# Altium footprint library DRA.PcbLib: 72 footprints (part 2 of 6)
Each footprint in its own frame and in the unit in brackets; x right, y up, seen from the top. Pads: shape width x height; smd on the part's side, far side on the other; paste and mask are expansions set on the pad; w line width, h text height; cw(c..) or ccw(c..) is an arc to the next point about the centre after c.
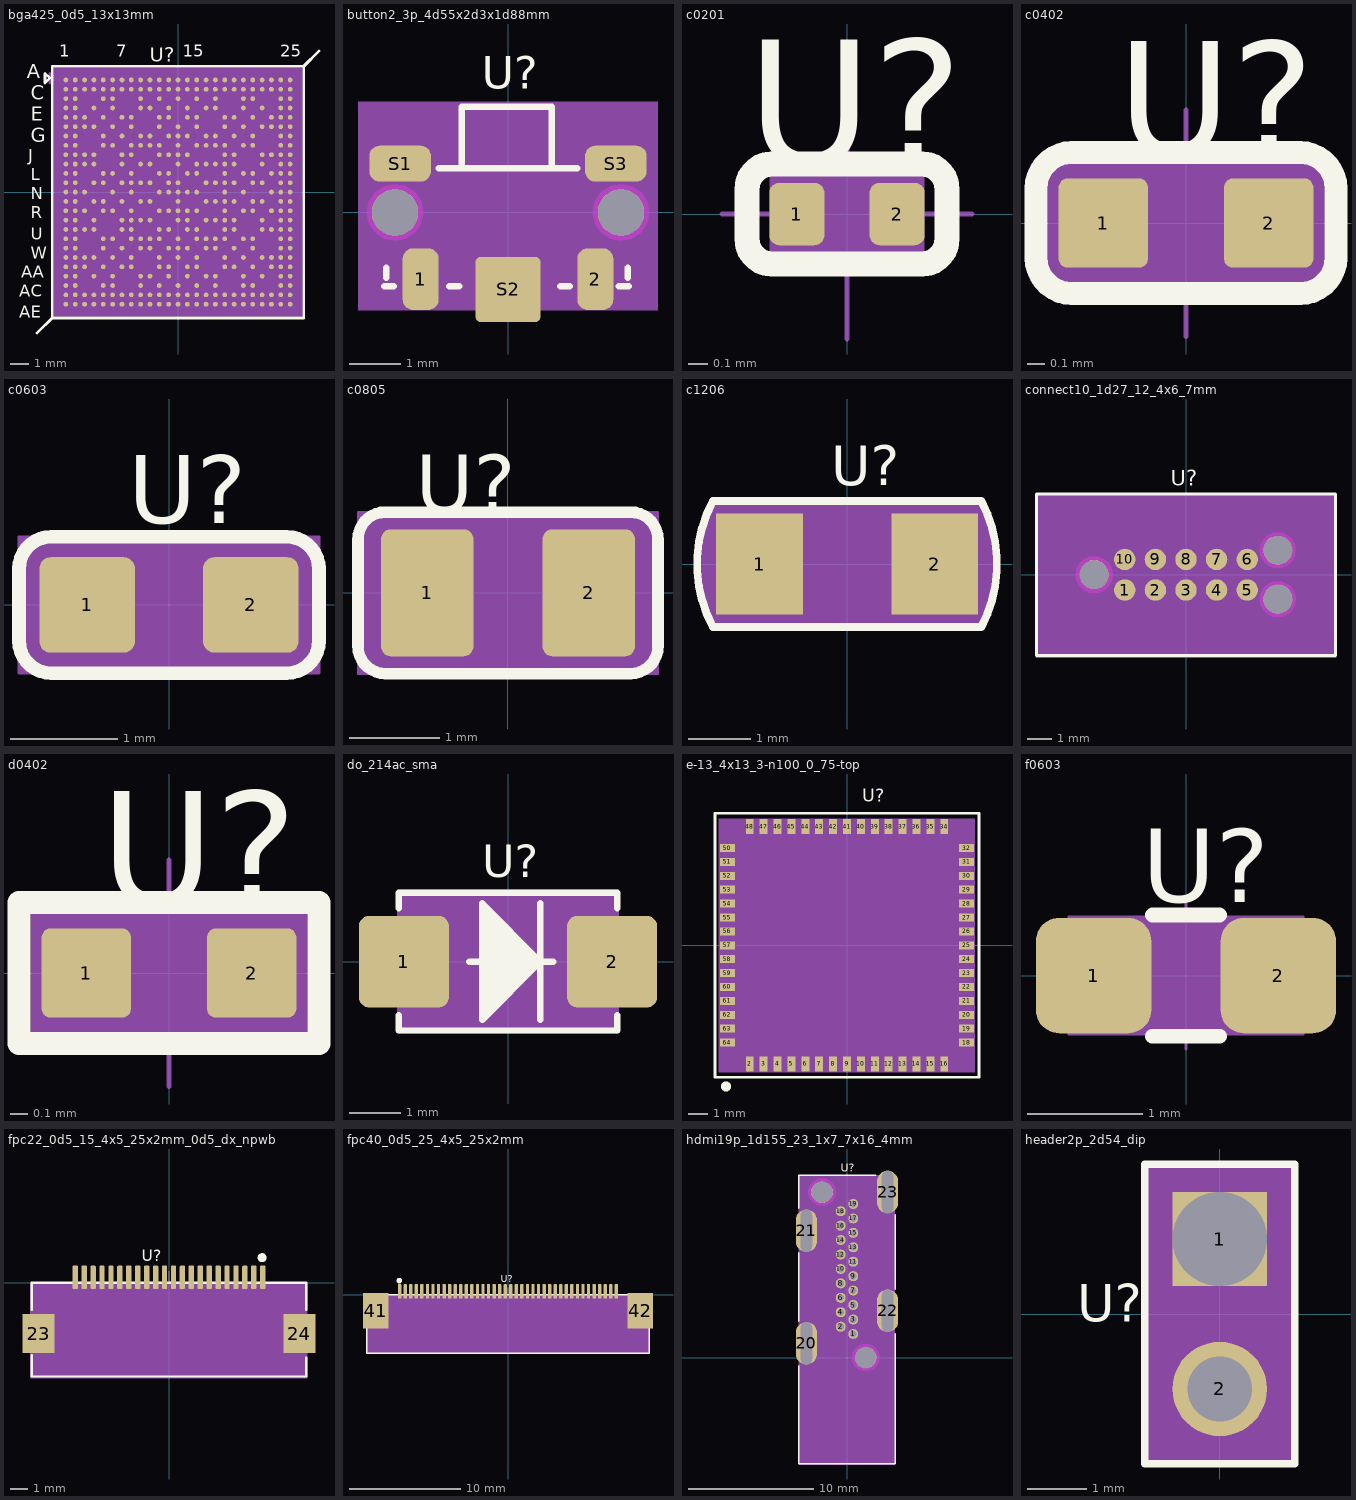
[diagram p1: the footprints below, top view; thin cyan lines are the x and y axes]

## bga425_0d5_13x13mm [mil]
pads (425):
  round 10 smd: A1(-236.22,236.22) A2(-216.54,236.22) A3(-196.85,236.22) A4(-177.16,236.22) A5(-157.48,236.22) A6(-137.8,236.22) A7(-118.11,236.22) A8(-98.42,236.22) A9(-78.74,236.22) A10(-59.06,236.22) A11(-39.37,236.22) A12(-19.68,236.22) A13(0,236.22) A14(19.68,236.22) A15(39.37,236.22) A16(59.06,236.22) A17(78.74,236.22) A18(98.42,236.22) A19(118.11,236.22) A20(137.8,236.22) A21(157.48,236.22) A22(177.16,236.22) A23(196.85,236.22) A24(216.54,236.22) A25(236.22,236.22) AA1(-236.22,-157.48) AA2(-216.54,-157.48) AA3(-196.85,-157.48) AA5(-157.48,-157.48) AA7(-118.11,-157.48) AA8(-98.42,-157.48) AA11(-39.37,-157.48) AA12(-19.68,-157.48) AA14(19.68,-157.48) AA15(39.37,-157.48) AA18(98.42,-157.48) AA19(118.11,-157.48) AA21(157.48,-157.48) AA23(196.85,-157.48) AA24(216.54,-157.48) AA25(236.22,-157.48) AB1(-236.22,-177.16) AB2(-216.54,-177.16) AB4(-177.16,-177.16) AB6(-137.8,-177.16) AB9(-78.74,-177.16) AB10(-59.06,-177.16) AB12(-19.68,-177.16) AB14(19.68,-177.16) AB16(59.06,-177.16) AB17(78.74,-177.16) AB20(137.8,-177.16) AB22(177.16,-177.16) AB24(216.54,-177.16) AB25(236.22,-177.16) AC1(-236.22,-196.85) AC2(-216.54,-196.85) AC5(-157.48,-196.85) AC6(-137.8,-196.85) AC9(-78.74,-196.85) AC11(-39.37,-196.85) AC13(0,-196.85) AC15(39.37,-196.85) AC17(78.74,-196.85) AC20(137.8,-196.85) AC21(157.48,-196.85) AC24(216.54,-196.85) AC25(236.22,-196.85) AD1(-236.22,-216.54) AD2(-216.54,-216.54) AD3(-196.85,-216.54) AD4(-177.16,-216.54) AD5(-157.48,-216.54) AD6(-137.8,-216.54) AD7(-118.11,-216.54) AD8(-98.42,-216.54) AD9(-78.74,-216.54) AD10(-59.06,-216.54) AD11(-39.37,-216.54) AD12(-19.68,-216.54) AD13(0,-216.54) AD14(19.68,-216.54) AD15(39.37,-216.54) AD16(59.06,-216.54) AD17(78.74,-216.54) AD18(98.42,-216.54) AD19(118.11,-216.54) AD20(137.8,-216.54) AD21(157.48,-216.54) AD22(177.16,-216.54) AD23(196.85,-216.54) AD24(216.54,-216.54) AD25(236.22,-216.54) AE1(-236.22,-236.22) AE2(-216.54,-236.22) AE3(-196.85,-236.22) AE4(-177.16,-236.22) AE5(-157.48,-236.22) AE6(-137.8,-236.22) AE7(-118.11,-236.22) AE8(-98.42,-236.22) AE9(-78.74,-236.22) AE10(-59.06,-236.22) AE11(-39.37,-236.22) AE12(-19.68,-236.22) AE13(0,-236.22) AE14(19.68,-236.22) AE15(39.37,-236.22) AE16(59.06,-236.22) AE17(78.74,-236.22) AE18(98.42,-236.22) AE19(118.11,-236.22) AE20(137.8,-236.22) AE21(157.48,-236.22) AE22(177.16,-236.22) AE23(196.85,-236.22) AE24(216.54,-236.22) AE25(236.22,-236.22) B1(-236.22,216.54) B2(-216.54,216.54) B3(-196.85,216.54) B4(-177.16,216.54) B5(-157.48,216.54) B6(-137.8,216.54) B7(-118.11,216.54) B8(-98.42,216.54) B9(-78.74,216.54) B10(-59.06,216.54) B11(-39.37,216.54) B12(-19.68,216.54) B13(0,216.54) B14(19.68,216.54) B15(39.37,216.54) B16(59.06,216.54) B17(78.74,216.54) B18(98.42,216.54) B19(118.11,216.54) B20(137.8,216.54) B21(157.48,216.54) B22(177.16,216.54) B23(196.85,216.54) B24(216.54,216.54) B25(236.22,216.54) C1(-236.22,196.85) C2(-216.54,196.85) C5(-157.48,196.85) C6(-137.8,196.85) C9(-78.74,196.85) C11(-39.37,196.85) C13(0,196.85) C15(39.37,196.85) C17(78.74,196.85) C20(137.8,196.85) C21(157.48,196.85) C24(216.54,196.85) C25(236.22,196.85) D1(-236.22,177.16) D2(-216.54,177.16) D4(-177.16,177.16) D6(-137.8,177.16) D9(-78.74,177.16) D10(-59.06,177.16) D12(-19.68,177.16) D14(19.68,177.16) D16(59.06,177.16) D17(78.74,177.16) D20(137.8,177.16) D22(177.16,177.16) D24(216.54,177.16) D25(236.22,177.16) E1(-236.22,157.48) E2(-216.54,157.48) E3(-196.85,157.48) E5(-157.48,157.48) E7(-118.11,157.48) E8(-98.42,157.48) E11(-39.37,157.48) E12(-19.68,157.48) E14(19.68,157.48) E15(39.37,157.48) E18(98.42,157.48) E19(118.11,157.48) E21(157.48,157.48) E23(196.85,157.48) E24(216.54,157.48) E25(236.22,157.48) F1(-236.22,137.8) F2(-216.54,137.8) F3(-196.85,137.8) F4(-177.16,137.8) F6(-137.8,137.8) F8(-98.42,137.8) F11(-39.37,137.8) F13(0,137.8) F15(39.37,137.8) F18(98.42,137.8) F20(137.8,137.8) F22(177.16,137.8) F23(196.85,137.8) F24(216.54,137.8) F25(236.22,137.8) G1(-236.22,118.11) G2(-216.54,118.11) G5(-157.48,118.11) G7(-118.11,118.11) G9(-78.74,118.11) G10(-59.06,118.11) G12(-19.68,118.11) G13(0,118.11) G14(19.68,118.11) G16(59.06,118.11) G17(78.74,118.11) G19(118.11,118.11) G21(157.48,118.11) G24(216.54,118.11) G25(236.22,118.11) H1(-236.22,98.42) H2(-216.54,98.42) H5(-157.48,98.42) H6(-137.8,98.42) H8(-98.42,98.42) H9(-78.74,98.42) H10(-59.06,98.42) H11(-39.37,98.42) H13(0,98.42) H15(39.37,98.42) H16(59.06,98.42) H17(78.74,98.42) H18(98.42,98.42) H20(137.8,98.42) H21(157.48,98.42) H24(216.54,98.42) H25(236.22,98.42) J1(-236.22,78.74) J2(-216.54,78.74) J3(-196.85,78.74) J4(-177.16,78.74) J7(-118.11,78.74) J8(-98.42,78.74) J11(-39.37,78.74) J12(-19.68,78.74) J13(0,78.74) J14(19.68,78.74) J18(98.42,78.74) J19(118.11,78.74) J22(177.16,78.74) J23(196.85,78.74) J24(216.54,78.74) J25(236.22,78.74) K1(-236.22,59.06) K2(-216.54,59.06) K3(-196.85,59.06) K4(-177.16,59.06) K7(-118.11,59.06) K9(-78.74,59.06) K10(-59.06,59.06) K13(0,59.06) K15(39.37,59.06) K16(59.06,59.06) K17(78.74,59.06) K18(98.42,59.06) K19(118.11,59.06) K22(177.16,59.06) K24(216.54,59.06) K25(236.22,59.06) L1(-236.22,39.37) L2(-216.54,39.37) L5(-157.48,39.37) L6(-137.8,39.37) L8(-98.42,39.37) L11(-39.37,39.37) L12(-19.68,39.37) L14(19.68,39.37) L15(39.37,39.37) L18(98.42,39.37) L20(137.8,39.37) L21(157.48,39.37) L23(196.85,39.37) L24(216.54,39.37) L25(236.22,39.37) M1(-236.22,19.68) M2(-216.54,19.68) M4(-177.16,19.68) M5(-157.48,19.68) M7(-118.11,19.68) M8(-98.42,19.68) M9(-78.74,19.68) M10(-59.06,19.68) M12(-19.68,19.68) M13(0,19.68) M16(59.06,19.68) M17(78.74,19.68) M18(98.42,19.68) M19(118.11,19.68) M21(157.48,19.68) M22(177.16,19.68) M24(216.54,19.68) M25(236.22,19.68) N1(-236.22,0) N2(-216.54,0) N3(-196.85,0) N6(-137.8,0) N8(-98.42,0) N11(-39.37,0) N12(-19.68,0) N13(0,0) N14(19.68,0) N15(39.37,0) N18(98.42,0) N20(137.8,0) N23(196.85,0) N24(216.54,0) N25(236.22,0) P1(-236.22,-19.68) P2(-216.54,-19.68) P4(-177.16,-19.68) P5(-157.48,-19.68) P7(-118.11,-19.68) P9(-78.74,-19.68) P10(-59.06,-19.68) P13(0,-19.68) P16(59.06,-19.68) P17(78.74,-19.68) P18(98.42,-19.68) P19(118.11,-19.68) P21(157.48,-19.68) P22(177.16,-19.68) P24(216.54,-19.68) P25(236.22,-19.68) R1(-236.22,-39.37) R2(-216.54,-39.37) R3(-196.85,-39.37) R5(-157.48,-39.37) R6(-137.8,-39.37) R8(-98.42,-39.37) R11(-39.37,-39.37) R12(-19.68,-39.37) R13(0,-39.37) R14(19.68,-39.37) R15(39.37,-39.37) R18(98.42,-39.37) R20(137.8,-39.37) R21(157.48,-39.37) R23(196.85,-39.37) R24(216.54,-39.37) R25(236.22,-39.37) T1(-236.22,-59.06) T2(-216.54,-59.06) T4(-177.16,-59.06) T7(-118.11,-59.06) T8(-98.42,-59.06) T9(-78.74,-59.06) T10(-59.06,-59.06) T13(0,-59.06) T14(19.68,-59.06) T16(59.06,-59.06) T17(78.74,-59.06) T18(98.42,-59.06) T19(118.11,-59.06) T22(177.16,-59.06) T24(216.54,-59.06) T25(236.22,-59.06) U1(-236.22,-78.74) U2(-216.54,-78.74) U3(-196.85,-78.74) U4(-177.16,-78.74) U7(-118.11,-78.74) U8(-98.42,-78.74) U11(-39.37,-78.74) U12(-19.68,-78.74) U14(19.68,-78.74) U15(39.37,-78.74) U18(98.42,-78.74) U19(118.11,-78.74) U22(177.16,-78.74) U23(196.85,-78.74) U24(216.54,-78.74) U25(236.22,-78.74) V1(-236.22,-98.42) V2(-216.54,-98.42) V5(-157.48,-98.42) V6(-137.8,-98.42) V8(-98.42,-98.42) V9(-78.74,-98.42) V10(-59.06,-98.42) V11(-39.37,-98.42) V13(0,-98.42) V15(39.37,-98.42) V16(59.06,-98.42) V17(78.74,-98.42) V18(98.42,-98.42) V20(137.8,-98.42) V21(157.48,-98.42) V24(216.54,-98.42) V25(236.22,-98.42) W1(-236.22,-118.11) W2(-216.54,-118.11) W5(-157.48,-118.11) W7(-118.11,-118.11) W9(-78.74,-118.11) W10(-59.06,-118.11) W12(-19.68,-118.11) W13(0,-118.11) W14(19.68,-118.11) W16(59.06,-118.11) W17(78.74,-118.11) W19(118.11,-118.11) W21(157.48,-118.11) W24(216.54,-118.11) W25(236.22,-118.11) Y1(-236.22,-137.8) Y2(-216.54,-137.8) Y3(-196.85,-137.8) Y4(-177.16,-137.8) Y6(-137.8,-137.8) Y8(-98.42,-137.8) Y11(-39.37,-137.8) Y13(0,-137.8) Y15(39.37,-137.8) Y18(98.42,-137.8) Y20(137.8,-137.8) Y22(177.16,-137.8) Y23(196.85,-137.8) Y24(216.54,-137.8) Y25(236.22,-137.8)
Top Overlay:
  lines w6: -265,-265 -297,-297 -265,-265 ; -265,-265 265,-265 265,265 ; -265,-265 -265,265 265,265 ; 265,265 297,297 265,265 ; -280,230 -270,240 -280,250 -280,230
  text "R" at -310,-55 h25
  text "C" at -310,195 h30
  text "U" at -310,-100 h25
  text "E" at -310,150 h30
  text "15" at 10,285 h25
  text "AC" at -335,-220 h25
  text "U?" at -60,275 h30
  text "7" at -130,285 h25
  text "N" at -310,-15 h25
  text "A" at -290,240 h30
  text "1" at -250,285 h25
  text "L" at -310,25 h25
  text "AE" at -335,-265 h25
  text "AA" at -330,-180 h25
  text "25" at 215,285 h25
  text "G" at -310,105 h30
  text "J" at -315,65 h25
  text "W" at -310,-140 h25
~BFM:
  dashed: -262,-262 -262,262 262,262 262,-262
PLACE_BOUND_TOP:
  region: -255,-255 -255,255 255,255 255,-255
DRAWING_ORIGIN:
  lines w1: -25,0 25,0 ; 0,-25 0,25
PIN_NUMBER:
  text "AE12" at -35.68,-236.22 h10
  text "C24" at 204.54,196.85 h10
  text "AE2" at -228.54,-236.22 h10
  text "AA14" at 3.68,-157.48 h10
  text "E2" at -224.54,157.48 h10
  text "R8" at -106.42,-39.37 h10
  text "T14" at 7.68,-59.06 h10
  text "M2" at -224.54,19.68 h10
  text "J12" at -31.68,78.74 h10
  text "K4" at -185.16,59.06 h10
  text "AC20" at 121.8,-196.85 h10
  text "L2" at -224.54,39.37 h10
  text "G7" at -126.11,118.11 h10
  text "AB2" at -228.54,-177.16 h10
  text "W2" at -224.54,-118.11 h10
  text "AA18" at 82.42,-157.48 h10
  text "L12" at -31.68,39.37 h10
  text "A17" at 66.74,236.22 h10
  text "Y3" at -204.85,-137.8 h10
  text "H6" at -145.8,98.42 h10
  text "A8" at -106.42,236.22 h10
  text "D6" at -145.8,177.16 h10
  text "F15" at 27.37,137.8 h10
  text "H24" at 204.54,98.42 h10
  text "T10" at -71.06,-59.06 h10
  text "T18" at 86.42,-59.06 h10
  text "T24" at 204.54,-59.06 h10
  text "M22" at 165.16,19.68 h10
  text "AB24" at 200.54,-177.16 h10
  text "AE4" at -189.16,-236.22 h10
  text "G14" at 7.68,118.11 h10
  text "M16" at 47.06,19.68 h10
  text "B22" at 165.16,216.54 h10
  text "P24" at 204.54,-19.68 h10
  text "AD24" at 200.54,-216.54 h10
  text "G1" at -244.22,118.11 h10
  text "R12" at -31.68,-39.37 h10
  text "E25" at 224.22,157.48 h10
  text "U25" at 224.22,-78.74 h10
  text "C6" at -145.8,196.85 h10
  text "B12" at -31.68,216.54 h10
  text "B19" at 106.11,216.54 h10
  text "L21" at 145.48,39.37 h10
  text "AE18" at 82.42,-236.22 h10
  text "B18" at 86.42,216.54 h10
  text "B14" at 7.68,216.54 h10
  text "H9" at -86.74,98.42 h10
  text "AB1" at -248.22,-177.16 h10
  text "AC1" at -248.22,-196.85 h10
  text "U15" at 27.37,-78.74 h10
  text "G13" at -12,118.11 h10
  text "A22" at 165.16,236.22 h10
  text "B24" at 204.54,216.54 h10
  text "C13" at -12,196.85 h10
  text "Y18" at 86.42,-137.8 h10
  text "R15" at 27.37,-39.37 h10
  text "N18" at 86.42,0 h10
  text "P18" at 86.42,-19.68 h10
  text "D4" at -185.16,177.16 h10
  text "AE23" at 180.85,-236.22 h10
  text "D1" at -244.22,177.16 h10
  text "L1" at -244.22,39.37 h10
  text "M4" at -185.16,19.68 h10
  text "K10" at -71.06,59.06 h10
  text "H21" at 145.48,98.42 h10
  text "R11" at -51.37,-39.37 h10
  text "G25" at 224.22,118.11 h10
  text "AB22" at 161.16,-177.16 h10
  text "J13" at -12,78.74 h10
  text "F3" at -204.85,137.8 h10
  text "A1" at -244.22,236.22 h10
  text "T13" at -12,-59.06 h10
  text "R13" at -12,-39.37 h10
  text "N11" at -51.37,0 h10
  text "AD14" at 3.68,-216.54 h10
  text "E24" at 204.54,157.48 h10
  text "U18" at 86.42,-78.74 h10
  text "N1" at -244.22,0 h10
  text "AB20" at 121.8,-177.16 h10
  text "B17" at 66.74,216.54 h10
  text "AE16" at 43.06,-236.22 h10
  text "B16" at 47.06,216.54 h10
  text "U2" at -224.54,-78.74 h10
  text "W14" at 7.68,-118.11 h10
  text "AD5" at -169.48,-216.54 h10
  text "T1" at -244.22,-59.06 h10
  text "AA21" at 141.48,-157.48 h10
  text "L23" at 184.85,39.37 h10
  text "AD22" at 161.16,-216.54 h10
  text "P19" at 106.11,-19.68 h10
  text "P1" at -244.22,-19.68 h10
  text "F23" at 184.85,137.8 h10
  text "A25" at 224.22,236.22 h10
  text "F13" at -12,137.8 h10
  text "M7" at -126.11,19.68 h10
  text "C21" at 145.48,196.85 h10
  text "A6" at -145.8,236.22 h10
  text "AA19" at 102.11,-157.48 h10
  text "E18" at 86.42,157.48 h10
  text "N25" at 224.22,0 h10
  text "Y8" at -106.42,-137.8 h10
  text "R1" at -244.22,-39.37 h10
  text "T19" at 106.11,-59.06 h10
  text "B21" at 145.48,216.54 h10
  text "M10" at -71.06,19.68 h10
  text "P9" at -86.74,-19.68 h10
  text "AE7" at -130.11,-236.22 h10
  text "U22" at 165.16,-78.74 h10
  text "R20" at 125.8,-39.37 h10
  text "E19" at 106.11,157.48 h10
  text "R2" at -224.54,-39.37 h10
  text "AE8" at -110.42,-236.22 h10
  text "AE14" at 3.68,-236.22 h10
  text "Y22" at 165.16,-137.8 h10
  text "E5" at -165.48,157.48 h10
  text "AA7" at -130.11,-157.48 h10
  text "K25" at 224.22,59.06 h10
  text "L20" at 125.8,39.37 h10
  text "N12" at -31.68,0 h10
  text "AB9" at -90.74,-177.16 h10
  text "AA12" at -35.68,-157.48 h10
  text "H1" at -244.22,98.42 h10
  text "B4" at -185.16,216.54 h10
  text "Y11" at -51.37,-137.8 h10
  text "L11" at -51.37,39.37 h10
  text "P21" at 145.48,-19.68 h10
  text "L25" at 224.22,39.37 h10
  text "A19" at 106.11,236.22 h10
  text "A4" at -185.16,236.22 h10
  text "U24" at 204.54,-78.74 h10
  text "F4" at -185.16,137.8 h10
  text "E8" at -106.42,157.48 h10
  text "D25" at 224.22,177.16 h10
  text "J22" at 165.16,78.74 h10
  text "T7" at -126.11,-59.06 h10
  text "Y6" at -145.8,-137.8 h10
  text "A20" at 125.8,236.22 h10
  text "C25" at 224.22,196.85 h10
  text "P17" at 66.74,-19.68 h10
  text "AA5" at -169.48,-157.48 h10
  text "G2" at -224.54,118.11 h10
  text "M8" at -106.42,19.68 h10
  text "T16" at 47.06,-59.06 h10
  text "AB14" at 3.68,-177.16 h10
  text "T8" at -106.42,-59.06 h10
  text "AC2" at -228.54,-196.85 h10
  text "J3" at -204.85,78.74 h10
  text "H17" at 66.74,98.42 h10
  text "L8" at -106.42,39.37 h10
  text "AE10" at -75.06,-236.22 h10
  text "P25" at 224.22,-19.68 h10
  text "AA1" at -248.22,-157.48 h10
  text "AD10" at -75.06,-216.54 h10
  text "AC25" at 220.22,-196.85 h10
  text "D20" at 125.8,177.16 h10
  text "H25" at 224.22,98.42 h10
  text "AC11" at -55.37,-196.85 h10
  text "A18" at 86.42,236.22 h10
  text "B5" at -165.48,216.54 h10
  text "AA3" at -208.85,-157.48 h10
  text "AD12" at -35.68,-216.54 h10
  text "E23" at 184.85,157.48 h10
  text "D2" at -224.54,177.16 h10
  text "J25" at 224.22,78.74 h10
  text "Y13" at -12,-137.8 h10
  text "G5" at -165.48,118.11 h10
  text "T22" at 165.16,-59.06 h10
  text "E3" at -204.85,157.48 h10
  text "U23" at 184.85,-78.74 h10
  text "U14" at 7.68,-78.74 h10
  text "D10" at -71.06,177.16 h10
  text "AC24" at 200.54,-196.85 h10
  text "G24" at 204.54,118.11 h10
  text "K7" at -126.11,59.06 h10
  text "AD23" at 180.85,-216.54 h10
  text "C5" at -165.48,196.85 h10
  text "A12" at -31.68,236.22 h10
  text "H5" at -165.48,98.42 h10
  text "AB6" at -149.8,-177.16 h10
  text "N13" at -12,0 h10
  text "W25" at 224.22,-118.11 h10
  text "G12" at -31.68,118.11 h10
  text "H16" at 47.06,98.42 h10
  text "K2" at -224.54,59.06 h10
  text "AA25" at 220.22,-157.48 h10
  text "M9" at -86.74,19.68 h10
  text "AE20" at 121.8,-236.22 h10
  text "R25" at 224.22,-39.37 h10
  text "W24" at 204.54,-118.11 h10
  text "T17" at 66.74,-59.06 h10
  text "L6" at -145.8,39.37 h10
  text "AE5" at -169.48,-236.22 h10
  text "AB25" at 220.22,-177.16 h10
  text "H10" at -71.06,98.42 h10
  text "P10" at -71.06,-19.68 h10
  text "T2" at -224.54,-59.06 h10
  text "A11" at -51.37,236.22 h10
  text "P7" at -126.11,-19.68 h10
  text "AE15" at 23.37,-236.22 h10
  text "U19" at 106.11,-78.74 h10
  text "F18" at 86.42,137.8 h10
  text "D16" at 47.06,177.16 h10
  text "AE3" at -208.85,-236.22 h10
  text "J14" at 7.68,78.74 h10
  text "A2" at -224.54,236.22 h10
  text "F20" at 125.8,137.8 h10
  text "A3" at -204.85,236.22 h10
  text "AA11" at -55.37,-157.48 h10
  text "P13" at -12,-19.68 h10
  text "J23" at 184.85,78.74 h10
  text "A16" at 47.06,236.22 h10
  text "H8" at -106.42,98.42 h10
  text "Y25" at 224.22,-137.8 h10
  text "P2" at -224.54,-19.68 h10
  text "C15" at 27.37,196.85 h10
  text "A9" at -86.74,236.22 h10
  text "N3" at -204.85,0 h10
  text "AD13" at -16,-216.54 h10
  text "AD4" at -189.16,-216.54 h10
  text "B6" at -145.8,216.54 h10
  text "K9" at -86.74,59.06 h10
  text "R24" at 204.54,-39.37 h10
  text "P5" at -165.48,-19.68 h10
  text "AD7" at -130.11,-216.54 h10
  text "AE1" at -248.22,-236.22 h10
  text "B7" at -126.11,216.54 h10
  text "W13" at -12,-118.11 h10
  text "A15" at 27.37,236.22 h10
  text "E14" at 7.68,157.48 h10
  text "L18" at 86.42,39.37 h10
  text "AC15" at 23.37,-196.85 h10
  text "J1" at -244.22,78.74 h10
  text "W10" at -71.06,-118.11 h10
  text "W12" at -31.68,-118.11 h10
  text "T25" at 224.22,-59.06 h10
  text "V18" at 86.42,-98.42 h10
  text "AA23" at 180.85,-157.48 h10
  text "D17" at 66.74,177.16 h10
  text "D24" at 204.54,177.16 h10
  text "K24" at 204.54,59.06 h10
  text "U11" at -51.37,-78.74 h10
  text "T9" at -86.74,-59.06 h10
  text "U1" at -244.22,-78.74 h10
  text "AD25" at 220.22,-216.54 h10
  text "AD9" at -90.74,-216.54 h10
  text "AB4" at -189.16,-177.16 h10
  text "D14" at 7.68,177.16 h10
  text "AC6" at -149.8,-196.85 h10
  text "B2" at -224.54,216.54 h10
  text "Y2" at -224.54,-137.8 h10
  text "A14" at 7.68,236.22 h10
  text "E11" at -51.37,157.48 h10
  text "F11" at -51.37,137.8 h10
  text "F25" at 224.22,137.8 h10
  text "V20" at 125.8,-98.42 h10
  text "AD1" at -248.22,-216.54 h10
  text "U8" at -106.42,-78.74 h10
  text "AD21" at 141.48,-216.54 h10
  text "J7" at -126.11,78.74 h10
  text "A24" at 204.54,236.22 h10
  text "C20" at 125.8,196.85 h10
  text "L5" at -165.48,39.37 h10
  text "E15" at 27.37,157.48 h10
  text "W9" at -86.74,-118.11 h10
  text "V2" at -224.54,-98.42 h10
  text "C11" at -51.37,196.85 h10
  text "H11" at -51.37,98.42 h10
  text "J4" at -185.16,78.74 h10
  text "W7" at -126.11,-118.11 h10
  text "H15" at 27.37,98.42 h10
  text "K15" at 27.37,59.06 h10
  text "P16" at 47.06,-19.68 h10
  text "H2" at -224.54,98.42 h10
  text "R23" at 184.85,-39.37 h10
  text "AC13" at -16,-196.85 h10
  text "A21" at 145.48,236.22 h10
  text "V16" at 47.06,-98.42 h10
  text "G19" at 106.11,118.11 h10
  text "C1" at -244.22,196.85 h10
  text "T4" at -185.16,-59.06 h10
  text "Y23" at 184.85,-137.8 h10
  text "U7" at -126.11,-78.74 h10
  text "N15" at 27.37,0 h10
  text "AE21" at 141.48,-236.22 h10
  text "V8" at -106.42,-98.42 h10
  text "B3" at -204.85,216.54 h10
  text "L15" at 27.37,39.37 h10
  text "AE19" at 102.11,-236.22 h10
  text "V5" at -165.48,-98.42 h10
  text "AC17" at 62.74,-196.85 h10
  text "Y1" at -244.22,-137.8 h10
  text "V15" at 27.37,-98.42 h10
  text "AE22" at 161.16,-236.22 h10
  text "F24" at 204.54,137.8 h10
  text "AB10" at -75.06,-177.16 h10
  text "M25" at 224.22,19.68 h10
  text "K16" at 47.06,59.06 h10
  text "B10" at -71.06,216.54 h10
  text "F2" at -224.54,137.8 h10
  text "N6" at -145.8,0 h10
  text "N14" at 7.68,0 h10
  text "A23" at 184.85,236.22 h10
  text "AE11" at -55.37,-236.22 h10
  text "V1" at -244.22,-98.42 h10
  text "B11" at -51.37,216.54 h10
  text "L14" at 7.68,39.37 h10
  text "AA24" at 200.54,-157.48 h10
  text "V25" at 224.22,-98.42 h10
  text "U12" at -31.68,-78.74 h10
  text "R5" at -165.48,-39.37 h10
  text "H18" at 86.42,98.42 h10
  text "G10" at -71.06,118.11 h10
  text "J2" at -224.54,78.74 h10
  text "J18" at 86.42,78.74 h10
  text "V13" at -12,-98.42 h10
  text "B1" at -244.22,216.54 h10
  text "M12" at -31.68,19.68 h10
  text "D12" at -31.68,177.16 h10
  text "R18" at 86.42,-39.37 h10
  text "E7" at -126.11,157.48 h10
  text "V24" at 204.54,-98.42 h10
  text "Y4" at -185.16,-137.8 h10
  text "AE9" at -90.74,-236.22 h10
  text "W21" at 145.48,-118.11 h10
  text "Y24" at 204.54,-137.8 h10
  text "Y20" at 125.8,-137.8 h10
  text "K19" at 106.11,59.06 h10
  text "B9" at -86.74,216.54 h10
  text "C9" at -86.74,196.85 h10
  text "AD6" at -149.8,-216.54 h10
  text "M24" at 204.54,19.68 h10
  text "G21" at 145.48,118.11 h10
  text "AD3" at -208.85,-216.54 h10
  text "C17" at 66.74,196.85 h10
  text "M13" at -12,19.68 h10
  text "D9" at -86.74,177.16 h10
  text "W1" at -244.22,-118.11 h10
  text "J11" at -51.37,78.74 h10
  text "A10" at -71.06,236.22 h10
  text "A13" at -12,236.22 h10
  text "M1" at -244.22,19.68 h10
  text "V21" at 145.48,-98.42 h10
  text "W19" at 106.11,-118.11 h10
  text "N24" at 204.54,0 h10
  text "R6" at -145.8,-39.37 h10
  text "H20" at 125.8,98.42 h10
  text "G17" at 66.74,118.11 h10
  text "D22" at 165.16,177.16 h10
  text "AD16" at 43.06,-216.54 h10
  text "Y15" at 27.37,-137.8 h10
  text "AD20" at 121.8,-216.54 h10
  text "AE25" at 220.22,-236.22 h10
  text "F6" at -145.8,137.8 h10
  text "B25" at 224.22,216.54 h10
  text "B13" at -12,216.54 h10
  text "M19" at 106.11,19.68 h10
  text "V17" at 66.74,-98.42 h10
  text "P22" at 165.16,-19.68 h10
  text "W16" at 47.06,-118.11 h10
  text "AD17" at 62.74,-216.54 h10
  text "V9" at -86.74,-98.42 h10
  text "P4" at -185.16,-19.68 h10
  text "E21" at 145.48,157.48 h10
  text "B20" at 125.8,216.54 h10
  text "E12" at -31.68,157.48 h10
  text "G9" at -86.74,118.11 h10
  text "V11" at -51.37,-98.42 h10
  text "AD11" at -55.37,-216.54 h10
  text "K1" at -244.22,59.06 h10
  text "B15" at 27.37,216.54 h10
  text "AB12" at -35.68,-177.16 h10
  text "AD15" at 23.37,-216.54 h10
  text "N2" at -224.54,0 h10
  text "J24" at 204.54,78.74 h10
  text "M17" at 66.74,19.68 h10
  text "R14" at 7.68,-39.37 h10
  text "K3" at -204.85,59.06 h10
  text "K13" at -12,59.06 h10
  text "J19" at 106.11,78.74 h10
  text "R21" at 145.48,-39.37 h10
  text "U3" at -204.85,-78.74 h10
  text "F22" at 165.16,137.8 h10
  text "V6" at -145.8,-98.42 h10
  text "V10" at -71.06,-98.42 h10
  text "W17" at 66.74,-118.11 h10
  text "U4" at -185.16,-78.74 h10
  text "F1" at -244.22,137.8 h10
  text "AA15" at 23.37,-157.48 h10
  text "M21" at 145.48,19.68 h10
  text "AA8" at -110.42,-157.48 h10
  text "AA2" at -228.54,-157.48 h10
  text "A7" at -126.11,236.22 h10
  text "AC21" at 141.48,-196.85 h10
  text "AE6" at -149.8,-236.22 h10
  text "N23" at 184.85,0 h10
  text "AC9" at -90.74,-196.85 h10
  text "F8" at -106.42,137.8 h10
  text "AD2" at -228.54,-216.54 h10
  text "C2" at -224.54,196.85 h10
  text "AC5" at -169.48,-196.85 h10
  text "H13" at -12,98.42 h10
  text "AB17" at 62.74,-177.16 h10
  text "AE17" at 62.74,-236.22 h10
  text "N8" at -106.42,0 h10
  text "B8" at -106.42,216.54 h10
  text "M5" at -165.48,19.68 h10
  text "AE13" at -16,-236.22 h10
  text "AD8" at -110.42,-216.54 h10
  text "R3" at -204.85,-39.37 h10
  text "L24" at 204.54,39.37 h10
  text "AD19" at 102.11,-216.54 h10
  text "B23" at 184.85,216.54 h10
  text "J8" at -106.42,78.74 h10
  text "K18" at 86.42,59.06 h10
  text "AD18" at 82.42,-216.54 h10
  text "M18" at 86.42,19.68 h10
  text "AB16" at 43.06,-177.16 h10
  text "G16" at 47.06,118.11 h10
  text "W5" at -165.48,-118.11 h10
  text "K17" at 66.74,59.06 h10
  text "AE24" at 200.54,-236.22 h10
  text "E1" at -244.22,157.48 h10
  text "A5" at -165.48,236.22 h10
  text "K22" at 165.16,59.06 h10
  text "N20" at 125.8,0 h10
ASSEMBLY_TOP:
  lines w6: -270,230 -260,240 -270,250 -270,230 ; -255,-255 -255,255 255,255 255,-255 -255,-255
  text "U?" at -10,-65 h30
  text "U?" at -19,-10 h30
3D body: height 150, standoff 0, extent -255,-255 255,255

## button2_3p_4d55x2d3x1d88mm [mil]
pads (7):
  rrect57% 27.56x47.24 smd: 1(-66.93,-51.18) 2(66.93,-51.18)
  rrect57% 47.24x27.56 smd: S1(-82.68,37.4) S3(82.68,37.4)
  rrect16% 50x50 smd: S2(0,-59.06)
  round 35.43 hole 35.43: ""(-86.61,0) ""(86.61,0)
Top Overlay:
  lines w5: -95,-56.69 -87.48,-56.69 ; -93.31,-50 -93.31,-42.48 ; -53.15,33.86 53.15,33.86 ; -45,-56.69 -37.48,-56.69 ; 40,-56.69 47.52,-56.69 ; 85,-56.69 92.52,-56.69 ; 91.69,-50 91.69,-42.48 ; -35.43,33.86 33.46,33.86 33.46,81.1 -35.43,81.1 -35.43,33.86
  text "U?" at -20,95 h25
PLACE_BOUND_TOP:
  region: -115,-75 115,-75 115,85 -115,85
Multi-Layer keep-out:
  region: 108.33,0 106.67,8.31 101.97,15.35 94.92,20.06 86.61,21.71 78.31,20.06 75.94,18.48 71.26,15.35 66.55,8.31 64.9,0 66.55,-8.31 71.26,-15.35 75.94,-18.48 78.31,-20.06 86.61,-21.71 94.92,-20.06 101.97,-15.35 106.67,-8.31
  region: -64.9,0 -66.56,8.31 -71.26,15.35 -78.31,20.06 -86.61,21.71 -94.92,20.06 -97.28,18.48 -101.97,15.35 -106.67,8.31 -108.33,0 -106.67,-8.31 -101.97,-15.35 -97.28,-18.48 -94.92,-20.06 -86.61,-21.71 -78.31,-20.06 -71.26,-15.35 -66.56,-8.31
DRAWING_ORIGIN:
  lines w1: -25,0 25,0 ; 0,-25 0,25
PIN_NUMBER:
  text "S2" at -20,-59.06 h25
  text "S3" at 62.68,37.4 h25
  text "1" at -76.93,-51.18 h25
  text "2" at 56.93,-51.18 h25
  text "S1" at -102.68,37.4 h25
ASSEMBLY_TOP:
  lines w1: -95,-60 -95,80 95,80 95,-60 -95,-60
  text "U?" at -20,-10 h25
  text "U?" at -20,-40 h25
3D body: height 150, standoff 0, extent -115,-75 115,85

## c0201 [mil]
pads (2):
  rrect36% 11x12.5 smd: 1(-10.03,0) 2(10.03,0)
Top Overlay:
  lines w5: -20,-5 ccw(c-15,-5) -15,-10 15,-10 ccw(c15,-5) 20,-5 20,5 ccw(c15,5) 15,10 -15,10 ccw(c-15,5) -20,5 -20,-5
  text "U?" at -20,10 h25
PLACE_BOUND_TOP:
  region: -15,-10 15,-10 15,10 -15,10
DRAWING_ORIGIN:
  lines w1: -25,0 25,0 ; 0,-25 0,25
PIN_NUMBER:
  text "2" at 0.03,0 h25
  text "1" at -20.03,0 h25
ASSEMBLY_TOP:
  lines w1: -15,-10 -15,10 15,10 15,-10 -15,-10
  text "U?" at -10,-10 h25
  text "U?" at -10,-5 h25
3D body: height 150, standoff 0, extent -15,-10 15,10

## c0402 [mil]
pads (2):
  rrect20% 19.68x19.68 smd: 1(-18.21,0) 2(18.21,0)
Top Overlay:
  lines w5: -33.03,-7.66 ccw(c-25.16,-7.66) -25.16,-15.53 25.16,-15.53 ccw(c25.16,-7.66) 33.03,-7.66 33.03,7.66 ccw(c25.16,7.66) 25.16,15.53 -25.16,15.53 ccw(c-25.16,7.66) -33.03,7.66 -33.03,-7.66
  text "U?" at -15,15 h25
PLACE_BOUND_TOP:
  region: -30,-15 30,-15 30,15 -30,15
DRAWING_ORIGIN:
  lines w1: -25,0 25,0 ; 0,-25 0,25
PIN_NUMBER:
  text "2" at 8.21,0 h25
  text "1" at -28.21,0 h25
ASSEMBLY_TOP:
  lines w1: -30,-15 -30,15 30,15 30,-15 -30,-15
  text "U?" at 5,-10 h25
  text "U?" at -15,-10 h25
3D body: height 150, standoff 0, extent -30,-15 30,15

## c0603 [mil]
pads (2):
  rrect23% 35x35 smd: 1(-30,0) 2(30,0)
Top Overlay:
  lines w5: -55,-13.19 ccw(c-43.19,-13.19) -43.19,-25 43.19,-25 ccw(c43.19,-13.19) 55,-13.19 55,13.19 ccw(c43.19,13.19) 43.19,25 -43.19,25 ccw(c-43.19,13.19) -55,13.19 -55,-13.19
  text "U?" at -15,30 h25
PLACE_BOUND_TOP:
  region: -55,-25 55,-25 55,25 -55,25
DRAWING_ORIGIN:
  lines w1: -25,0 25,0 ; 0,-25 0,25
PIN_NUMBER:
  text "2" at 20,0 h25
  text "1" at -40,0 h25
ASSEMBLY_TOP:
  lines w1: -55,-25 -55,25 55,25 55,-25 -55,-25
  text "U?" at 0,-10 h25
  text "U?" at -20,-10 h25
3D body: height 150, standoff 0, extent -55,-25 55,25

## c0805 [mil]
pads (2):
  rrect20% 40x55 smd: 1(-35,0) 2(35,0)
Top Overlay:
  lines w5: -65,-23.19 ccw(c-53.19,-23.19) -53.19,-35 53.19,-35 ccw(c53.19,-23.19) 65,-23.19 65,23.19 ccw(c53.19,23.19) 53.19,35 -53.19,35 ccw(c-53.19,23.19) -65,23.19 -65,-23.19
  text "U?" at -40,35 h25
PLACE_BOUND_TOP:
  region: -65,-35 65,-35 65,35 -65,35
DRAWING_ORIGIN:
  lines w1: -25,0 25,0 ; 0,-25 0,25
PIN_NUMBER:
  text "2" at 25,0 h25
  text "1" at -45,0 h25
ASSEMBLY_TOP:
  lines w1: -65,-35 -65,35 65,35 65,-35 -65,-35
  text "U?" at -10,5 h25
  text "U?" at -15,0 h25
3D body: height 150, standoff 0, extent -65,-35 65,35

## c1206 [mil]
pads (2):
  rect 55x64 smd: 1(-55.5,0) 2(55.5,0)
Top Overlay:
  lines w5: -85,-40 cw(c-11.25,0) -85,40 85,40 cw(c10,0) 85,-40 -85,-40
  text "U?" at -10,50 h25
PLACE_BOUND_TOP:
  region: -85,40 85,40 87.45,35.4 91.2,25.67 93.73,15.56 95,5.21 95,-5.21 93.73,-15.56 91.2,-25.67 87.45,-35.4 85,-40 -85,-40 -87.45,-35.4 -91.2,-25.67 -93.73,-15.56 -95,-5.21 -95,5.21 -93.73,15.56 -91.2,25.67 -87.45,35.4
DRAWING_ORIGIN:
  lines w1: -25,0 25,0 ; 0,-25 0,25
PIN_NUMBER:
  text "2" at 46.3,0 h23
  text "1" at -64.7,0 h23
ASSEMBLY_TOP:
  lines w1: -85,-40 -85,40 85,40 85,-40 -85,-40
  text "U?" at -15,-25 h25
  text "U?" at -15,0 h25
3D body: height 150, standoff 0, extent -95,-40 95,40

## connect10_1d27_12_4x6_7mm [mm]
pads (13):
  round 0.89 smd: 1(-2.54,-0.635) 2(-1.27,-0.635) 3(0,-0.635) 4(1.27,-0.635) 5(2.54,-0.635) 6(2.54,0.635) 7(1.27,0.635) 8(0,0.635) 9(-1.27,0.635) 10(-2.54,0.635)
  round 1.2 hole 1.2: ""(-3.81,0) ""(3.81,-1.015) ""(3.81,1.015)
Top Overlay:
  lines w0.127: -6.2,-3.35 -6.2,3.35 6.2,3.35 6.2,-3.35 -6.2,-3.35
  text "U?" at -0.635,3.683 h0.64
PLACE_BOUND_TOP:
  region: -6.223,-3.429 6.223,-3.429 6.223,3.302 -6.223,3.302
Multi-Layer keep-out:
  region: -3.041,0 -3.068,0.199 -3.144,0.384 -3.267,0.543 -3.426,0.666 -3.611,0.742 -3.81,0.769 -4.009,0.742 -4.194,0.666 -4.353,0.543 -4.476,0.384 -4.552,0.199 -4.579,0 -4.552,-0.199 -4.476,-0.384 -4.353,-0.543 -4.194,-0.666 -4.009,-0.742 -3.81,-0.769 -3.611,-0.742 -3.426,-0.666 -3.267,-0.543 -3.144,-0.384 -3.068,-0.199
  region: 4.558,1.015 4.532,1.209 4.458,1.389 4.339,1.544 4.184,1.663 4.004,1.737 3.81,1.763 3.616,1.737 3.436,1.663 3.281,1.544 3.162,1.389 3.088,1.209 3.062,1.015 3.088,0.821 3.162,0.641 3.281,0.486 3.436,0.367 3.616,0.293 3.81,0.267 4.004,0.293 4.184,0.367 4.339,0.486 4.458,0.641 4.532,0.821
  region: 4.556,-1.015 4.531,-0.822 4.456,-0.642 4.338,-0.487 4.183,-0.369 4.003,-0.294 3.81,-0.269 3.617,-0.294 3.437,-0.369 3.282,-0.487 3.164,-0.642 3.089,-0.822 3.064,-1.015 3.089,-1.208 3.164,-1.388 3.282,-1.543 3.437,-1.661 3.617,-1.736 3.81,-1.761 4.003,-1.736 4.183,-1.661 4.338,-1.543 4.456,-1.388 4.531,-1.208
DRAWING_ORIGIN:
  lines w0.025: -0.635,0 0.635,0 ; 0,-0.635 0,0.635
PIN_NUMBER:
  text "2" at -1.524,-0.635 h0.64
  text "4" at 1.016,-0.635 h0.64
  text "6" at 2.286,0.635 h0.64
  text "8" at -0.254,0.635 h0.64
  text "1" at -2.794,-0.635 h0.64
  text "3" at -0.254,-0.635 h0.64
  text "5" at 2.286,-0.635 h0.64
  text "9" at -1.524,0.635 h0.64
  text "7" at 1.016,0.635 h0.64
  text "10" at -3.048,0.635 h0.64
ASSEMBLY_TOP:
  lines w0.025: -6.223,-3.429 -6.223,3.302 6.223,3.302 6.223,-3.429 -6.223,-3.429
  text "U?" at -0.889,-0.127 h0.64
  text "U?" at -1.016,-0.254 h0.64
3D body: height 3.81, standoff 0, extent -6.223,-3.429 6.223,3.302

## d0402 [mil]
pads (2):
  rrect20% 19.68x19.68 smd: 1(-18.21,0) 2(18.21,0)
Top Overlay:
  lines w5: -33.03,-15.53 33.03,-15.53 33.03,15.53 -33.03,15.53 -33.03,-15.53
  text "U?" at -15,15 h25
PLACE_BOUND_TOP:
  region: -30,-15 30,-15 30,15 -30,15
DRAWING_ORIGIN:
  lines w1: -25,0 25,0 ; 0,-25 0,25
PIN_NUMBER:
  text "2" at 8.21,0 h25
  text "1" at -28.21,0 h25
ASSEMBLY_TOP:
  lines w1: -30,-15 -30,15 30,15 30,-15 -30,-15
  text "U?" at 5,-10 h25
  text "U?" at -15,-10 h25
3D body: height 150, standoff 0, extent -30,-15 30,15

## do_214ac_sma [mil]
pads (2):
  rrect23% 69.68x70.86 smd: 1(-80.39,0) 2(80.39,0)
Top Overlay:
  dashed: 25,0 -20,45 -20,-45
  lines w5: -84.45,-41.34 -84.45,-53.15 84.45,-53.15 84.45,-41.34 ; -84.45,41.34 -84.45,53.15 84.45,53.15 84.45,41.34 ; -30,0 35,0 ; 25,-45 25,45 ; -20,-45 25,0 -20,45 -20,-45
  text "U?" at -20,65 h25
PLACE_BOUND_TOP:
  region: -85,-55 85,-55 85,55 -85,55
DRAWING_ORIGIN:
  lines w1: -25,0 25,0 ; 0,-25 0,25
PIN_NUMBER:
  text "1" at -90.39,0 h25
  text "2" at 70.39,0 h25
ASSEMBLY_TOP:
  dashed: -20,45 -20,-45 25,0
  lines w1: 25,-45 25,45 ; -85,-55 -85,55 85,55 85,-55 -85,-55
  text "U?" at -15,-10 h25
  text "U?" at -15,30 h25
3D body: height 150, standoff 0, extent -85,-55 85,55

## e-13_4x13_3-n100_0_75-top [mil]
pads (100):
  rect 0x0 smd: 1(-237.2,-235.24) 17(237.2,-235.24) 33(237.2,235.24) 49(-237.2,235.24) G1(-151.57,-151.57) G2(-96.46,-151.57) G3(-41.34,-151.57) G4(-151.57,-96.46) G5(-96.46,-96.46) G6(-41.34,-96.46) G7(-151.57,-41.34) G8(-96.46,-41.34) G9(-41.34,-41.34) G10(41.34,-151.57) G11(96.46,-151.57) G12(151.57,-151.57) G13(41.34,-96.46) G14(96.46,-96.46) G15(151.57,-96.46) G16(41.34,-41.34) G17(96.46,-41.34) G18(151.57,-41.34) G19(-151.57,41.34) G20(-96.46,41.34) G21(-41.34,41.34) G22(-151.57,96.46) G23(-96.46,96.46) G24(-41.34,96.46) G25(-151.57,151.57) G26(-96.46,151.57) G27(-41.34,151.57) G28(41.34,41.34) G29(96.46,41.34) G30(151.57,41.34) G31(41.34,96.46) G32(96.46,96.46) G33(151.57,96.46) G34(41.34,151.57) G35(96.46,151.57) G36(151.57,151.57)
  rect 15.75x29.53 smd: 2(-192.91,-235.24) 3(-165.35,-235.24) 4(-137.8,-235.24) 5(-110.24,-235.24) 6(-82.68,-235.24) 7(-55.12,-235.24) 8(-27.56,-235.24) 9(0,-235.24) 10(27.56,-235.24) 11(55.12,-235.24) 12(82.68,-235.24) 13(110.24,-235.24) 14(137.8,-235.24) 15(165.35,-235.24) 16(192.91,-235.24) 34(192.91,235.24) 35(165.35,235.24) 36(137.8,235.24) 37(110.24,235.24) 38(82.68,235.24) 39(55.12,235.24) 40(27.56,235.24) 41(0,235.24) 42(-27.56,235.24) 43(-55.12,235.24) 44(-82.68,235.24) 45(-110.24,235.24) 46(-137.8,235.24) 47(-165.35,235.24) 48(-192.91,235.24)
  rect 29.53x15.75 smd: 18(237.2,-192.91) 19(237.2,-165.35) 20(237.2,-137.8) 21(237.2,-110.24) 22(237.2,-82.68) 23(237.2,-55.12) 24(237.2,-27.56) 25(237.2,0) 26(237.2,27.56) 27(237.2,55.12) 28(237.2,82.68) 29(237.2,110.24) 30(237.2,137.8) 31(237.2,165.35) 32(237.2,192.91) 50(-237.2,192.91) 51(-237.2,165.35) 52(-237.2,137.8) 53(-237.2,110.24) 54(-237.2,82.68) 55(-237.2,55.12) 56(-237.2,27.56) 57(-237.2,0) 58(-237.2,-27.56) 59(-237.2,-55.12) 60(-237.2,-82.68) 61(-237.2,-110.24) 62(-237.2,-137.8) 63(-237.2,-165.35) 64(-237.2,-192.91)
Top Overlay:
  circle w10: c-240,-280 r5
  lines w5: -261.81,-261.81 261.81,-261.81 261.81,261.81 -261.81,261.81 -261.81,-261.81
  text "U?" at 30,285 h25
PLACE_BOUND_TOP:
  region: -253.15,-251.18 253.15,-251.18 253.15,251.18 -253.15,251.18
DRAWING_ORIGIN:
  lines w1: -25,0 25,0 ; 0,-25 0,25
PIN_NUMBER:
  text "9" at -10,-235.24 h25
  text "G3" at -61.34,-151.57 h25
  text "G35" at 66.46,151.57 h25
  text "G23" at -126.46,96.46 h25
  text "48" at -212.91,235.24 h25
  text "G27" at -71.34,151.57 h25
  text "43" at -75.12,235.24 h25
  text "G32" at 66.46,96.46 h25
  text "39" at 35.12,235.24 h25
  text "G11" at 66.46,-151.57 h25
  text "46" at -157.8,235.24 h25
  text "G25" at -181.57,151.57 h25
  text "55" at -257.2,55.12 h25
  text "38" at 62.68,235.24 h25
  text "20" at 217.2,-137.8 h25
  text "30" at 217.2,137.8 h25
  text "G31" at 11.34,96.46 h25
  text "G4" at -171.57,-96.46 h25
  text "22" at 217.2,-82.68 h25
  text "G1" at -171.57,-151.57 h25
  text "25" at 217.2,0 h25
  text "G9" at -61.34,-41.34 h25
  text "34" at 172.91,235.24 h25
  text "58" at -257.2,-27.56 h25
  text "G34" at 11.34,151.57 h25
  text "11" at 35.12,-235.24 h25
  text "G5" at -116.46,-96.46 h25
  text "1" at -247.2,-235.24 h25
  text "G22" at -181.57,96.46 h25
  text "G12" at 121.57,-151.57 h25
  text "50" at -257.2,192.91 h25
  text "56" at -257.2,27.56 h25
  text "G17" at 66.46,-41.34 h25
  text "G8" at -116.46,-41.34 h25
  text "G36" at 121.57,151.57 h25
  text "G29" at 66.46,41.34 h25
  text "3" at -175.35,-235.24 h25
  text "40" at 7.56,235.24 h25
  text "23" at 217.2,-55.12 h25
  text "G19" at -181.57,41.34 h25
  text "G15" at 121.57,-96.46 h25
  text "31" at 217.2,165.35 h25
  text "G16" at 11.34,-41.34 h25
  text "64" at -257.2,-192.91 h25
  text "37" at 90.24,235.24 h25
  text "61" at -257.2,-110.24 h25
  text "17" at 217.2,-235.24 h25
  text "33" at 217.2,235.24 h25
  text "41" at -20,235.24 h25
  text "49" at -257.2,235.24 h25
  text "26" at 217.2,27.56 h25
  text "G2" at -116.46,-151.57 h25
  text "G33" at 121.57,96.46 h25
  text "18" at 217.2,-192.91 h25
  text "32" at 217.2,192.91 h25
  text "47" at -185.35,235.24 h25
  text "53" at -257.2,110.24 h25
  text "16" at 172.91,-235.24 h25
  text "57" at -257.2,0 h25
  text "24" at 217.2,-27.56 h25
  text "G13" at 11.34,-96.46 h25
  text "27" at 217.2,55.12 h25
  text "G30" at 121.57,41.34 h25
  text "15" at 145.35,-235.24 h25
  text "19" at 217.2,-165.35 h25
  text "6" at -92.68,-235.24 h25
  text "5" at -120.24,-235.24 h25
  text "G28" at 11.34,41.34 h25
  text "35" at 145.35,235.24 h25
  text "21" at 217.2,-110.24 h25
  text "28" at 217.2,82.68 h25
  text "G24" at -71.34,96.46 h25
  text "10" at 7.56,-235.24 h25
  text "44" at -102.68,235.24 h25
  text "4" at -147.8,-235.24 h25
  text "52" at -257.2,137.8 h25
  text "G18" at 121.57,-41.34 h25
  text "8" at -37.56,-235.24 h25
  text "G20" at -126.46,41.34 h25
  text "45" at -130.24,235.24 h25
  text "59" at -257.2,-55.12 h25
  text "42" at -47.56,235.24 h25
  text "G14" at 66.46,-96.46 h25
  text "G26" at -126.46,151.57 h25
  text "G6" at -61.34,-96.46 h25
  text "14" at 117.8,-235.24 h25
  text "G7" at -171.57,-41.34 h25
  text "29" at 217.2,110.24 h25
  text "G21" at -71.34,41.34 h25
  text "13" at 90.24,-235.24 h25
  text "G10" at 11.34,-151.57 h25
  text "2" at -202.91,-235.24 h25
  text "7" at -65.12,-235.24 h25
  text "62" at -257.2,-137.8 h25
  text "54" at -257.2,82.68 h25
  text "36" at 117.8,235.24 h25
  text "63" at -257.2,-165.35 h25
  text "12" at 62.68,-235.24 h25
  text "60" at -257.2,-82.68 h25
  text "51" at -257.2,165.35 h25
ASSEMBLY_TOP:
  circle w1: c-235,-235 r14.14
  lines w1: -253.15,-251.18 -253.15,251.18 253.15,251.18 253.15,-251.18 -253.15,-251.18
  text "U?" at 55,-5 h25
  text "U?" at -100,0 h25
3D body: height 150, standoff 0, extent -253.15,-251.18 253.15,251.18

## f0603 [mil]
pads (2):
  rrect40% 39.36x39.36 smd: 1(-31.5,0) 2(31.5,0)
Top Overlay:
  lines w5: -11.42,-20.67 11.42,-20.67 ; -11.42,20.67 11.42,20.67
  text "U?" at -15,25 h25
PLACE_BOUND_TOP:
  region: -40,-20 40,-20 40,20 -40,20
DRAWING_ORIGIN:
  lines w1: -25,0 25,0 ; 0,-25 0,25
PIN_NUMBER:
  text "2" at 21.5,0 h25
  text "1" at -41.5,0 h25
ASSEMBLY_TOP:
  lines w1: -40,-20 -40,20 40,20 40,-20 -40,-20
  text "U?" at -10,-10 h25
  text "U?" at -20,-10 h25
3D body: height 150, standoff 0, extent -40,-20 40,20

## fpc22_0d5_15_4x5_25x2mm_0d5_dx_npwb [mil]
pads (24):
  rrect33% 11.8x51.18 smd: 1(206.69,11.81) 2(187.01,11.81) 3(167.32,11.81) 4(147.64,11.81) 5(127.95,11.81) 6(108.27,11.81) 7(88.58,11.81) 8(68.9,11.81) 9(49.21,11.81) 10(29.53,11.81) 11(9.84,11.81) 12(-9.84,11.81) 13(-29.53,11.81) 14(-49.21,11.81) 15(-68.9,11.81) 16(-88.58,11.81) 17(-108.27,11.81) 18(-127.95,11.81) 19(-147.64,11.81) 20(-167.32,11.81) 21(-187.01,11.81) 22(-206.69,11.81)
  rect 70.87x86.61 smd: 23(-287.4,-112.1) 24(287.4,-112.09)
Top Overlay:
  circle w10: c205.31,55 r5
  lines w5: -302.83,-160 -302.83,-206.69 302.83,-206.69 302.83,-165 ; -302.83,-60 -302.83,0 302.83,0 302.83,-60
  text "U?" at -59.69,46.81 h25
PLACE_BOUND_TOP:
  region: -305,-210 305,-210 305,0 -305,0
DRAWING_ORIGIN:
  lines w1: -25,0 25,0 ; 0,-25 0,25
PIN_NUMBER:
  text "12" at -29.84,11.81 h25
  text "1" at 196.69,11.81 h25
  text "22" at -226.69,11.81 h25
  text "20" at -187.32,11.81 h25
  text "14" at -69.21,11.81 h25
  text "24" at 267.4,-112.09 h25
  text "4" at 137.64,11.81 h25
  text "11" at -10.16,11.81 h25
  text "5" at 117.95,11.81 h25
  text "2" at 177.01,11.81 h25
  text "19" at -167.64,11.81 h25
  text "17" at -128.27,11.81 h25
  text "18" at -147.95,11.81 h25
  text "6" at 98.27,11.81 h25
  text "9" at 39.21,11.81 h25
  text "16" at -108.58,11.81 h25
  text "8" at 58.9,11.81 h25
  text "23" at -307.4,-112.1 h25
  text "10" at 9.53,11.81 h25
  text "21" at -207.01,11.81 h25
  text "15" at -88.9,11.81 h25
  text "13" at -49.53,11.81 h25
  text "7" at 78.58,11.81 h25
  text "3" at 157.32,11.81 h25
ASSEMBLY_TOP:
  circle w10: c210.31,-15 r5
  lines w1: -305,-210 -305,0 305,0 305,-210 -305,-210
  text "U?" at -54,-98.34 h25
  text "U?" at -54.69,-140 h25
3D body: height 150, standoff 0, extent -305,-210 305,0

## fpc40_0d5_25_4x5_25x2mm [mil]
pads (42):
  rrect33% 11.8x51.18 smd: 1(-383.86,11.81) 2(-364.17,11.81) 3(-344.49,11.81) 4(-324.8,11.81) 5(-305.12,11.81) 6(-285.43,11.81) 7(-265.75,11.81) 8(-246.06,11.81) 9(-226.38,11.81) 10(-206.69,11.81) 11(-187.01,11.81) 12(-167.32,11.81) 13(-147.64,11.81) 14(-127.95,11.81) 15(-108.27,11.81) 16(-88.58,11.81) 17(-68.9,11.81) 18(-49.21,11.81) 19(-29.53,11.81) 20(-9.84,11.81) 21(9.84,11.81) 22(29.53,11.81) 23(49.21,11.81) 24(68.9,11.81) 25(88.58,11.81) 26(108.27,11.81) 27(127.95,11.81) 28(147.64,11.81) 29(167.32,11.81) 30(187.01,11.81) 31(206.69,11.81) 32(226.38,11.81) 33(246.06,11.81) 34(265.75,11.81) 35(285.43,11.81) 36(305.12,11.81) 37(324.8,11.81) 38(344.49,11.81) 39(364.17,11.81) 40(383.86,11.81)
  rect 90.55x125.98 smd: 41(-468.5,-57.09) 42(468.5,-57.09)
Top Overlay:
  circle w10: c-385,50 r5
  lines w5: -500,-206.69 500,-206.69 500,0 -500,0 -500,-206.69
  text "U?" at -25,45 h25
PLACE_BOUND_TOP:
  region: -500,-205 500,-205 500,0 -500,0
DRAWING_ORIGIN:
  lines w1: -25,0 25,0 ; 0,-25 0,25
PIN_NUMBER:
  text "1" at -393.86,11.81 h25
  text "3" at -354.49,11.81 h25
  text "22" at 9.53,11.81 h25
  text "4" at -334.8,11.81 h25
  text "5" at -315.12,11.81 h25
  text "2" at -374.17,11.81 h25
  text "19" at -49.53,11.81 h25
  text "35" at 265.43,11.81 h25
  text "24" at 48.9,11.81 h25
  text "18" at -69.21,11.81 h25
  text "9" at -236.38,11.81 h25
  text "40" at 363.86,11.81 h25
  text "8" at -256.06,11.81 h25
  text "21" at -10.16,11.81 h25
  text "13" at -167.64,11.81 h25
  text "28" at 127.64,11.81 h25
  text "7" at -275.75,11.81 h25
  text "27" at 107.95,11.81 h25
  text "33" at 226.06,11.81 h25
  text "20" at -29.84,11.81 h25
  text "14" at -147.95,11.81 h25
  text "29" at 147.32,11.81 h25
  text "41" at -488.5,-57.09 h25
  text "39" at 344.17,11.81 h25
  text "25" at 68.58,11.81 h25
  text "11" at -207.01,11.81 h25
  text "37" at 304.8,11.81 h25
  text "32" at 206.38,11.81 h25
  text "36" at 285.12,11.81 h25
  text "30" at 167.01,11.81 h25
  text "17" at -88.9,11.81 h25
  text "31" at 186.69,11.81 h25
  text "6" at -295.43,11.81 h25
  text "38" at 324.49,11.81 h25
  text "26" at 88.27,11.81 h25
  text "16" at -108.58,11.81 h25
  text "23" at 29.21,11.81 h25
  text "42" at 448.5,-57.09 h25
  text "10" at -226.69,11.81 h25
  text "34" at 245.75,11.81 h25
  text "15" at -128.27,11.81 h25
  text "12" at -187.32,11.81 h25
ASSEMBLY_TOP:
  circle w10: c-385,-10 r5
  lines w1: -500,-205 -500,0 500,0 500,-205 -500,-205
  text "U?" at -35,-140 h25
  text "U?" at -40,-95 h25
3D body: height 150, standoff 0, extent -500,-205 500,0

## hdmi19p_1d155_23_1x7_7x16_4mm [mm]
pads (25):
  round 0.798 hole 0.55: 1(0.5,1.9) 2(-0.5,2.478) 3(0.5,3.055) 4(-0.5,3.633) 5(0.5,4.21) 6(-0.5,4.788) 7(0.5,5.365) 8(-0.5,5.943) 9(0.5,6.52) 10(-0.5,7.098) 11(0.5,7.675) 12(-0.5,8.253) 13(0.5,8.83) 14(-0.5,9.408) 15(0.5,9.985) 16(-0.5,10.563) 17(0.5,11.14) 18(-0.5,11.718) 19(0.5,12.295)
  oval 1.7x3.4 hole 0.9 slot 3.4 at 90 deg: 20(-3.25,1.15) 21(-3.25,10.15) 22(3.25,3.75) 23(3.25,13.25)
  round 1.7 hole 1.7: ""(-2,13.25) ""(1.5,0)
Top Overlay:
  lines w0.127: -3.85,-0.635 -3.85,-8.5 3.85,-8.5 3.85,1.905 ; -3.85,2.921 -3.85,8.382 ; -3.85,11.938 -3.85,14.6 2.286,14.6 ; 3.85,5.461 3.85,11.43
  text "U?" at -0.508,14.859 h0.64
PLACE_BOUND_TOP:
  region: -3.81,-8.509 3.81,-8.509 3.81,14.605 -3.81,14.605
Multi-Layer keep-out:
  region: -0.902,13.25 -0.939,13.534 -1.049,13.799 -1.223,14.027 -1.451,14.201 -1.716,14.311 -2,14.348 -2.284,14.311 -2.549,14.201 -2.777,14.027 -2.951,13.799 -3.061,13.534 -3.098,13.25 -3.061,12.966 -2.951,12.701 -2.777,12.473 -2.549,12.299 -2.284,12.189 -2,12.152 -1.716,12.189 -1.451,12.299 -1.223,12.473 -1.049,12.701 -0.939,12.966
  region: 2.598,0 2.561,0.284 2.451,0.549 2.277,0.777 2.049,0.951 1.784,1.061 1.5,1.098 1.216,1.061 0.951,0.951 0.723,0.777 0.549,0.549 0.439,0.284 0.402,0 0.439,-0.284 0.549,-0.549 0.723,-0.777 0.951,-0.951 1.216,-1.061 1.5,-1.098 1.784,-1.061 2.049,-0.951 2.277,-0.777 2.451,-0.549 2.561,-0.284
DRAWING_ORIGIN:
  lines w0.025: -0.635,0 0.635,0 ; 0,-0.635 0,0.635
PIN_NUMBER:
  text "3" at 0.246,3.055 h0.64
  text "1" at 0.246,1.9 h0.64
  text "6" at -0.754,4.788 h0.64
  text "2" at -0.754,2.478 h0.64
  text "13" at -0.008,8.83 h0.64
  text "10" at -1.008,7.098 h0.64
  text "21" at -3.758,10.15 h0.64
  text "11" at -0.008,7.675 h0.64
  text "19" at -0.008,12.295 h0.64
  text "14" at -1.008,9.408 h0.64
  text "5" at 0.246,4.21 h0.64
  text "16" at -1.008,10.563 h0.64
  text "9" at 0.246,6.52 h0.64
  text "23" at 2.742,13.25 h0.64
  text "8" at -0.754,5.943 h0.64
  text "18" at -1.008,11.718 h0.64
  text "20" at -3.758,1.15 h0.64
  text "15" at -0.008,9.985 h0.64
  text "4" at -0.754,3.633 h0.64
  text "17" at -0.008,11.14 h0.64
  text "12" at -1.008,8.253 h0.64
  text "7" at 0.246,5.365 h0.64
  text "22" at 2.742,3.75 h0.64
ASSEMBLY_TOP:
  lines w0.025: -3.81,-8.509 -3.81,14.605 3.81,14.605 3.81,-8.509 -3.81,-8.509
  text "U?" at -1.27,0.635 h0.64
  text "U?" at -1.143,0.762 h0.64
3D body: height 3.81, standoff 0, extent -3.81,-8.509 3.81,14.605

## header2p_2d54_dip [mil]
pads (2):
  rect 62.99x62.99 hole 62.99 square: 1(0,50)
  round 62.99 hole 43.31: 2(0,-50)
Top Overlay:
  lines w5: -50,-100 -50,100 50,100 50,-100 -50,-100
  text "U?" at -95,-5 h25
PLACE_BOUND_TOP:
  region: -50,-100 50,-100 50,100 -50,100
DRAWING_ORIGIN:
  lines w1: -25,0 25,0 ; 0,-25 0,25
PIN_NUMBER:
  text "1" at -10,50 h25
  text "2" at -10,-50 h25
ASSEMBLY_TOP:
  lines w1: -50,-100 -50,100 50,100 50,-100 -50,-100
  text "U?" at -30,-10 h25
  text "U?" at 15,-5 h25
3D body: height 150, standoff 0, extent -50,-100 50,100